# EAGLE library part 68800811622 (library Wire-to-Board (rev18a))
WR-WTB 2.50mm "J"Type Vertical Male Shrouded Header, 8 Pins=>Code : WR-WTB_Stiftleiste_J_68800811622 <http://katalog.we-online.de/media/thumbs2/eican/thb_WR-WTB_Stiftleiste_J_68800116622.jpg> Details see: http://katalog.we-online.de/en/em/WTB_2_50_J_TYPE_VERTICAL_MALE_SHROUDED_HEADER_6880XX11622 Created 2014-06-05, Karrer Zheng 2014 (C) Würth Elektronik
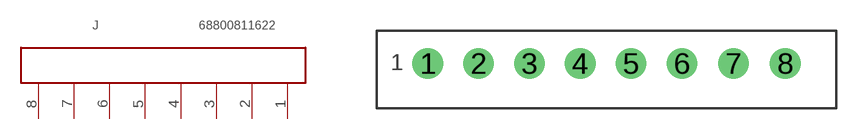
[diagram p15: symbol with the pads of 68800811622; footprint 68800811622]

Designator prefix J

## 68800811622  [68800811622]
1  1  pas
2  2  pas
3  3  pas
4  4  pas
5  5  pas
6  6  pas
7  7  pas
8  8  pas

## Footprint 68800811622 (pad centres in mm)
WR-WTB 2.50mm "J" Type Vertical Male Shrouded Header, 8 Pins
drill 1: 1 -8.79,0; 2 -6.29,0; 3 -3.79,0; 4 -1.29,0; 5 1.21,0; 6 3.71,0; 7 6.25,0; 8 8.79,0